# EAGLE library part AD7680 (library RHD2000_eval_board)
Analog Devices AD7680 16-bit ADC
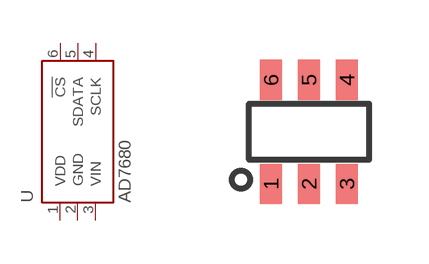
[diagram p5: symbol with the pads of SOT-23-RJ-6; footprint SOT-23-RJ-6]

Designator prefix U

## AD7680-SOT-23  [SOT-23-RJ-6]
1  VDD  pwr
2  GND  pwr
3  VIN  in
4  SCLK  in
5  SDATA  out
6  !CS!  in

## Footprint SOT-23-RJ-6 (pad centres in mm)
smd 0.55 x 1: 1 -0.95,-1.3; 2 0,-1.3; 3 0.95,-1.3; 4 0.95,1.3; 5 0,1.3; 6 -0.95,1.3